# Altium footprint library PcbLib.PcbLib: 35 footprints (part 1 of 3)
Each footprint in its own frame and in the unit in brackets; x right, y up, seen from the top. Pads: shape width x height; smd on the part's side, far side on the other; paste and mask are expansions set on the pad; w line width, h text height; cw(c..) or ccw(c..) is an arc to the next point about the centre after c.
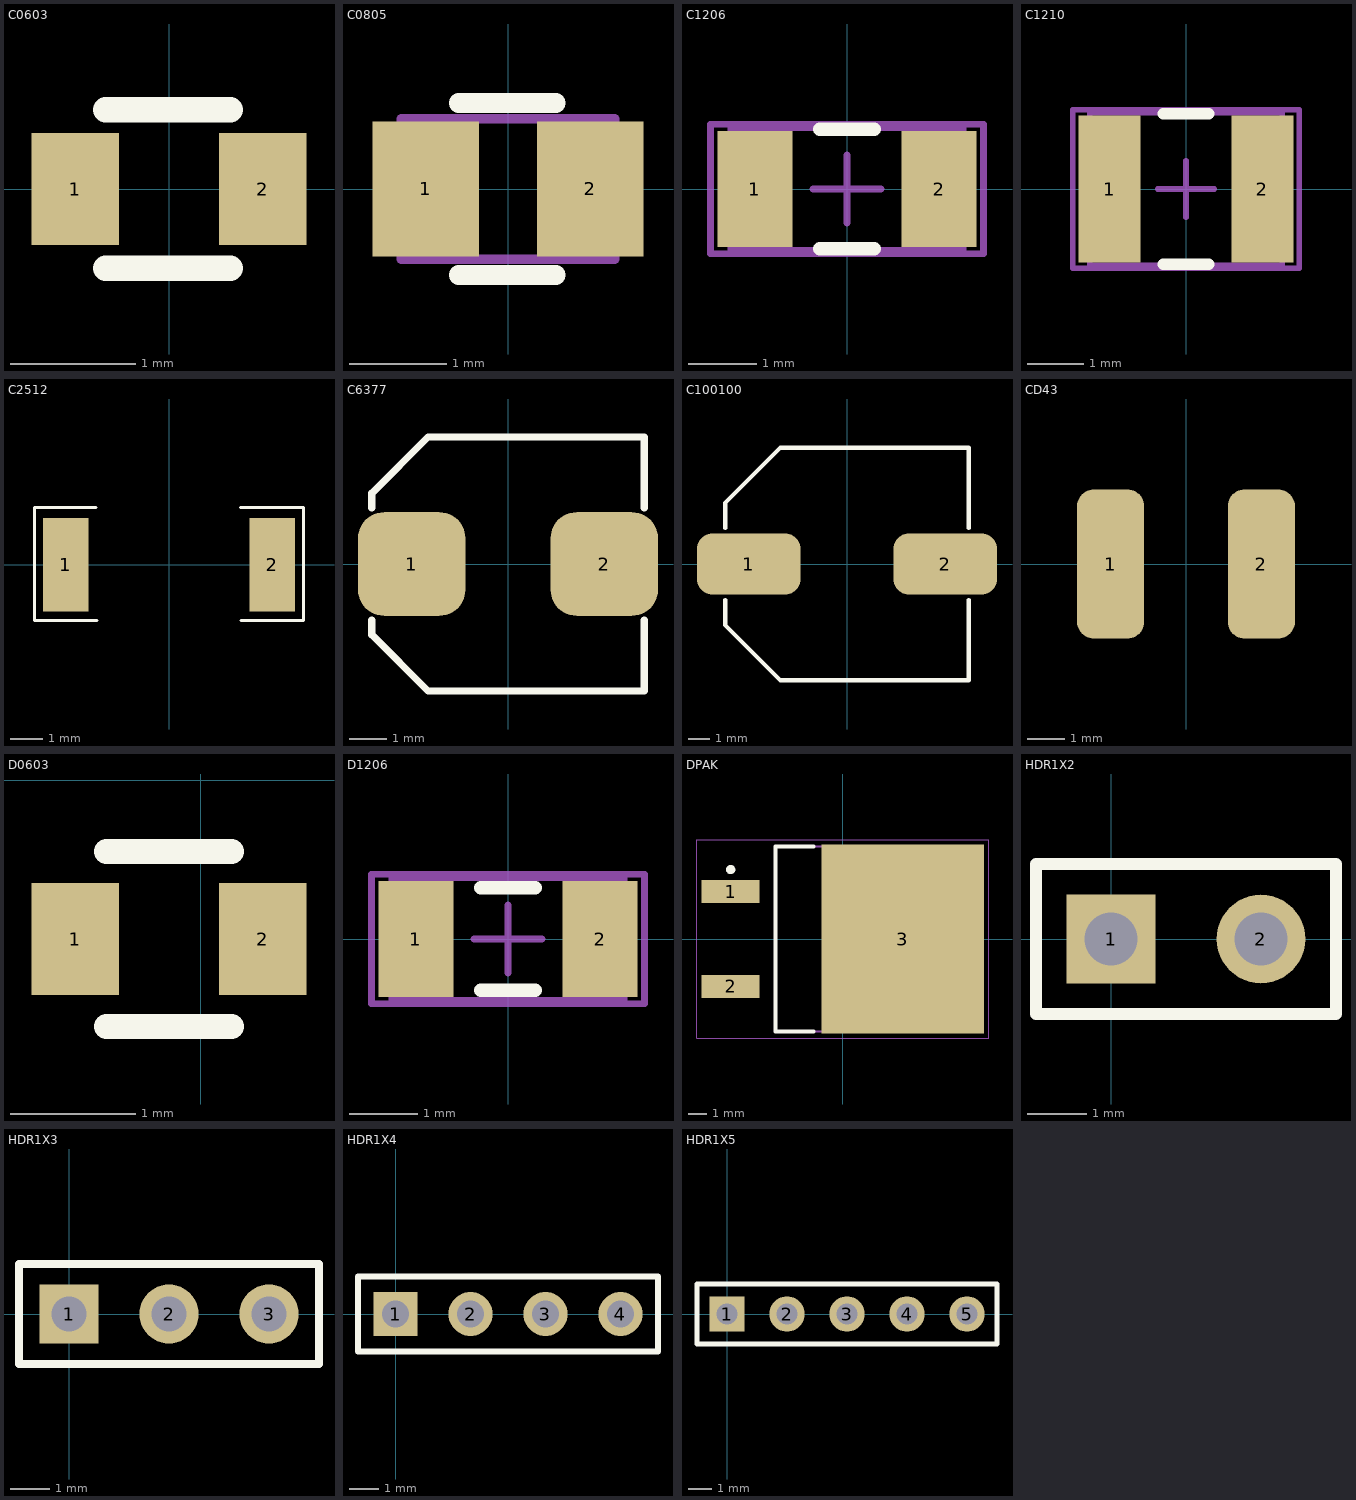
[diagram p0: the footprints below, top view; thin cyan lines are the x and y axes]

## C0603 [mm] "Chip Capacitor, Body 3.2x2.5mm, IPC High Density"
pads (2):
  rect 0.7x0.9 smd: 1(-0.75,0) 2(0.75,0)
Top Overlay:
  lines w0.203: -0.508,-0.635 0.492,-0.635 ; -0.508,0.635 0.492,0.635
3D body "User Library-0603 SMD Capacitor.STEP": height 0.3, standoff 0, extent -0.8,-0.4 0.8,0.4

## C0805 [mm] "Chip Capacitor, Body 3.2x2.5mm, IPC High Density"
height 1.4
pads (2):
  rect 1.1x1.4 smd: 1(-0.85,0) 2(0.85,0)
Top Overlay:
  lines w0.203: -0.508,-0.889 0.492,-0.889 ; -0.508,0.889 0.492,0.889
Mechanical 13:
  lines w0.1: -1.1,-0.725 -1.1,0.725 1.1,0.725 1.1,-0.725 -1.1,-0.725
3D body "SW3dPS-0805 SMD Capacitor.STEP": height 0.78, standoff 0, extent -1,-0.625 1,0.625

## C1206 [mm] "Chip Capacitor, Body 3.2x1.6mm, IPC High Density"
height 1.3
pads (2):
  rect 1.1x1.7 smd: 1(-1.35,0) 2(1.35,0)
Top Overlay:
  lines w0.2: -0.4,-0.877 0.4,-0.877 ; -0.4,0.877 0.4,0.877
Mechanical 13:
  lines w0.1: -1.7,-0.9 -1.7,0.9 1.7,0.9 1.7,-0.9 -1.7,-0.9
Mechanical 15:
  lines w0.1: -0.5,0 0.5,0 ; 0,-0.5 0,0.5 ; -2,-0.95 -2,0.95 2,0.95 2,-0.95 -2,-0.95
3D body "SW3dPS-1206 SMD Capacitor.STEP": height 1, standoff 0, extent -1.6,-0.8 1.6,0.8

## C1210 [mm] "Chip Capacitor, Body 3.2x2.5mm, IPC High Density"
height 1.3
pads (2):
  rect 1.1x2.6 smd: 1(-1.35,0) 2(1.35,0)
Top Overlay:
  lines w0.2: -0.4,-1.327 0.4,-1.327 ; -0.4,1.327 0.4,1.327
Mechanical 13:
  lines w0.1: -1.7,-1.35 -1.7,1.35 1.7,1.35 1.7,-1.35 -1.7,-1.35
Mechanical 15:
  lines w0.1: -0.5,0 0.5,0 ; 0,-0.5 0,0.5 ; -2,-1.4 -2,1.4 2,1.4 2,-1.4 -2,-1.4
3D body "SW3dPS-CAPC3225.STEP": height 2.5, standoff 0, extent -1.6,-1.25 1.6,1.25

## C2512 [mm] "Chip Capacitor, Body 3.2x2.5mm, IPC High Density"
pads (2):
  rect 1.4x2.9 smd: 1(-3.2,0) 2(3.2,0)
Top Overlay:
  lines w0.1: -2.262,1.775 -4.166,1.775 -4.166,-1.725 -2.237,-1.725 ; 2.213,1.775 4.166,1.775 4.166,-1.725 2.238,-1.725
3D body: height 0.65, standoff 0, extent 2.688,-1.375 3.188,1.35
3D body: height 0.65, standoff 0, extent -2.662,-1.375 2.688,1.352
3D body: height 0.65, standoff 0, extent -3.162,-1.375 -2.662,1.35

## C6377 [mm] "C6377"
pads (2):
  rrect50% 2.9x2.8 smd: 1(-2.6,0) 2(2.6,0)
Top Overlay:
  lines w0.2: -3.683,-1.524 -3.683,-1.905 -2.159,-3.429 3.683,-3.429 3.683,-1.524 ; -3.683,1.524 -3.683,1.905 -2.159,3.429 3.683,3.429 3.683,1.524
3D body "User Library-CC0607.STEP": height 8.11, standoff 0, extent -3.5,-3.3 3.5,3.3

## C100100 [mm] "C100100"
pads (2):
  rrect50% 4.75x2.8 smd: 1(-4.5,0) 2(4.5,0)
Top Overlay:
  lines w0.2: -5.588,-1.651 -5.588,-2.794 -3.048,-5.334 5.588,-5.334 5.588,-1.651 ; -5.588,1.651 -5.588,2.794 -3.048,5.334 5.588,5.334 5.588,1.651
3D body "User Library-CL_series_size10x10.STEP": height 10, standoff 0, extent -5.45,-5.15 5.45,5.15

## CD43 [mm] "CD43"
pads (2):
  rrect50% 1.8x4 smd: 1(-2.019,0) 2(2.019,0)
3D body "User Library-CD43NP.STEP": height 3.5, standoff 0, extent -2.4,-2.15 2.4,2.15

## D0603 [mm] "D0603"
pads (2):
  rect 0.7x0.9 smd: 1(-1.004,-1.27) 2(0.496,-1.27)
Top Overlay:
  lines w0.203: -0.754,-1.97 0.246,-1.97 ; -0.754,-0.57 0.246,-0.57
3D body "User Library-LED_0603_R.STEP": height 0.6, standoff 0, extent -1.054,-1.67 0.546,-0.87

## D1206 [mm] "D1206"
height 1.3
pads (2):
  rect 1.1x1.7 smd: 1(-1.35,0) 2(1.35,0)
Top Overlay:
  lines w0.2: -0.4,-0.75 0.4,-0.75 ; -0.4,0.75 0.4,0.75
Mechanical 13:
  lines w0.1: -1.7,-0.9 1.7,-0.9 1.7,0.9 -1.7,0.9 -1.7,-0.9
Mechanical 15:
  lines w0.1: -0.5,0 0.5,0 ; 0,-0.5 0,0.5 ; -2,-0.95 2,-0.95 2,0.95 -2,0.95 -2,-0.95
3D body "SW3dPS-1206 SMD Capacitor.STEP": height 1, standoff 0, extent -1.6,-0.8 1.6,0.8

## DPAK [mm] "DPAK, 3-Leads, Body 9.9x9.2mm, Pitch 2.54mm, IPC Medium Density"
height 4.5
pads (3):
  rect 3.1x1.25 smd: 1(-6,2.54) 2(-6,-2.54)
  rect 8.7x10.1 smd: 3(3.2,0)
Top Overlay:
  circle w0.25: c-6,3.715 r0.125
  lines w0.2: -1.55,-4.95 -3.6,-4.95 -3.6,4.95 -1.55,4.95
Mechanical 13:
  lines w0.1: -3.6,-4.95 -3.6,4.95 5.8,4.95 5.8,-4.95 -3.6,-4.95
Mechanical 15:
  lines w0.05: -7.8,-5.3 -7.8,5.3 7.8,5.3 7.8,-5.3 -7.8,-5.3
  lines w0.1: -0.5,0 0.5,0 ; 0,-0.5 0,0.5
3D body: height 4.5, standoff 0.1, extent -3.6,-4.95 5.8,4.95

## HDR1X2 [mm] "Connector; Header; 2 Position"
pads (2):
  rect 1.5x1.5 hole 0.9: 1(0,0)
  round 1.5 hole 0.9: 2(2.54,0)
Top Overlay:
  lines w0.2: -1.27,-1.27 -1.27,1.27 3.81,1.27 3.81,-1.27 -1.27,-1.27

## HDR1X3 [mm] "Connector; Header; 3 Position"
pads (3):
  rect 1.5x1.5 hole 0.9: 1(0,0)
  round 1.5 hole 0.9: 2(2.54,0) 3(5.08,0)
Top Overlay:
  lines w0.2: -1.27,-1.27 6.35,-1.27 6.35,1.27 -1.27,1.27 -1.27,-1.27

## HDR1X4 [mm] "Connector; Header; 4 Position"
pads (4):
  rect 1.5x1.5 hole 0.9: 1(0,0)
  round 1.5 hole 0.9: 2(2.54,0) 3(5.08,0) 4(7.62,0)
Top Overlay:
  lines w0.2: -1.27,-1.27 -1.27,1.27 8.89,1.27 8.89,-1.27 -1.27,-1.27

## HDR1X5 [mm] "Connector; Header; 5 Position"
pads (5):
  rect 1.5x1.5 hole 0.9: 1(0,0)
  round 1.5 hole 0.9: 2(2.54,0) 3(5.08,0) 4(7.62,0) 5(10.16,0)
Top Overlay:
  lines w0.2: -1.27,-1.27 -1.27,1.27 11.43,1.27 11.43,-1.27 -1.27,-1.27

## MOTOR [mm]
via 0,-2.435 diameter 1.5 hole 1
via 0,2.435 diameter 1.5 hole 1
via 0,0 diameter 5 hole 2.5